# Altium integrated library TC2030.IntLib: 1 symbol
Pins are listed as number, name and electrical type; pins without a type are passive.

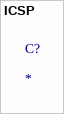
[diagram p0: symbol ICSP]

## ICSP
designator C?
footprint TC2030-MCP
footprint TC2030-MCP-NL
1 alternate drawing of the same symbol